# Altium footprint library XC7K160T.PcbLib: 72 footprints (part 3 of 5)
Each footprint in its own frame and in the unit in brackets; x right, y up, seen from the top. Pads: shape width x height; smd on the part's side, far side on the other; paste and mask are expansions set on the pad; w line width, h text height; cw(c..) or ccw(c..) is an arc to the next point about the centre after c.
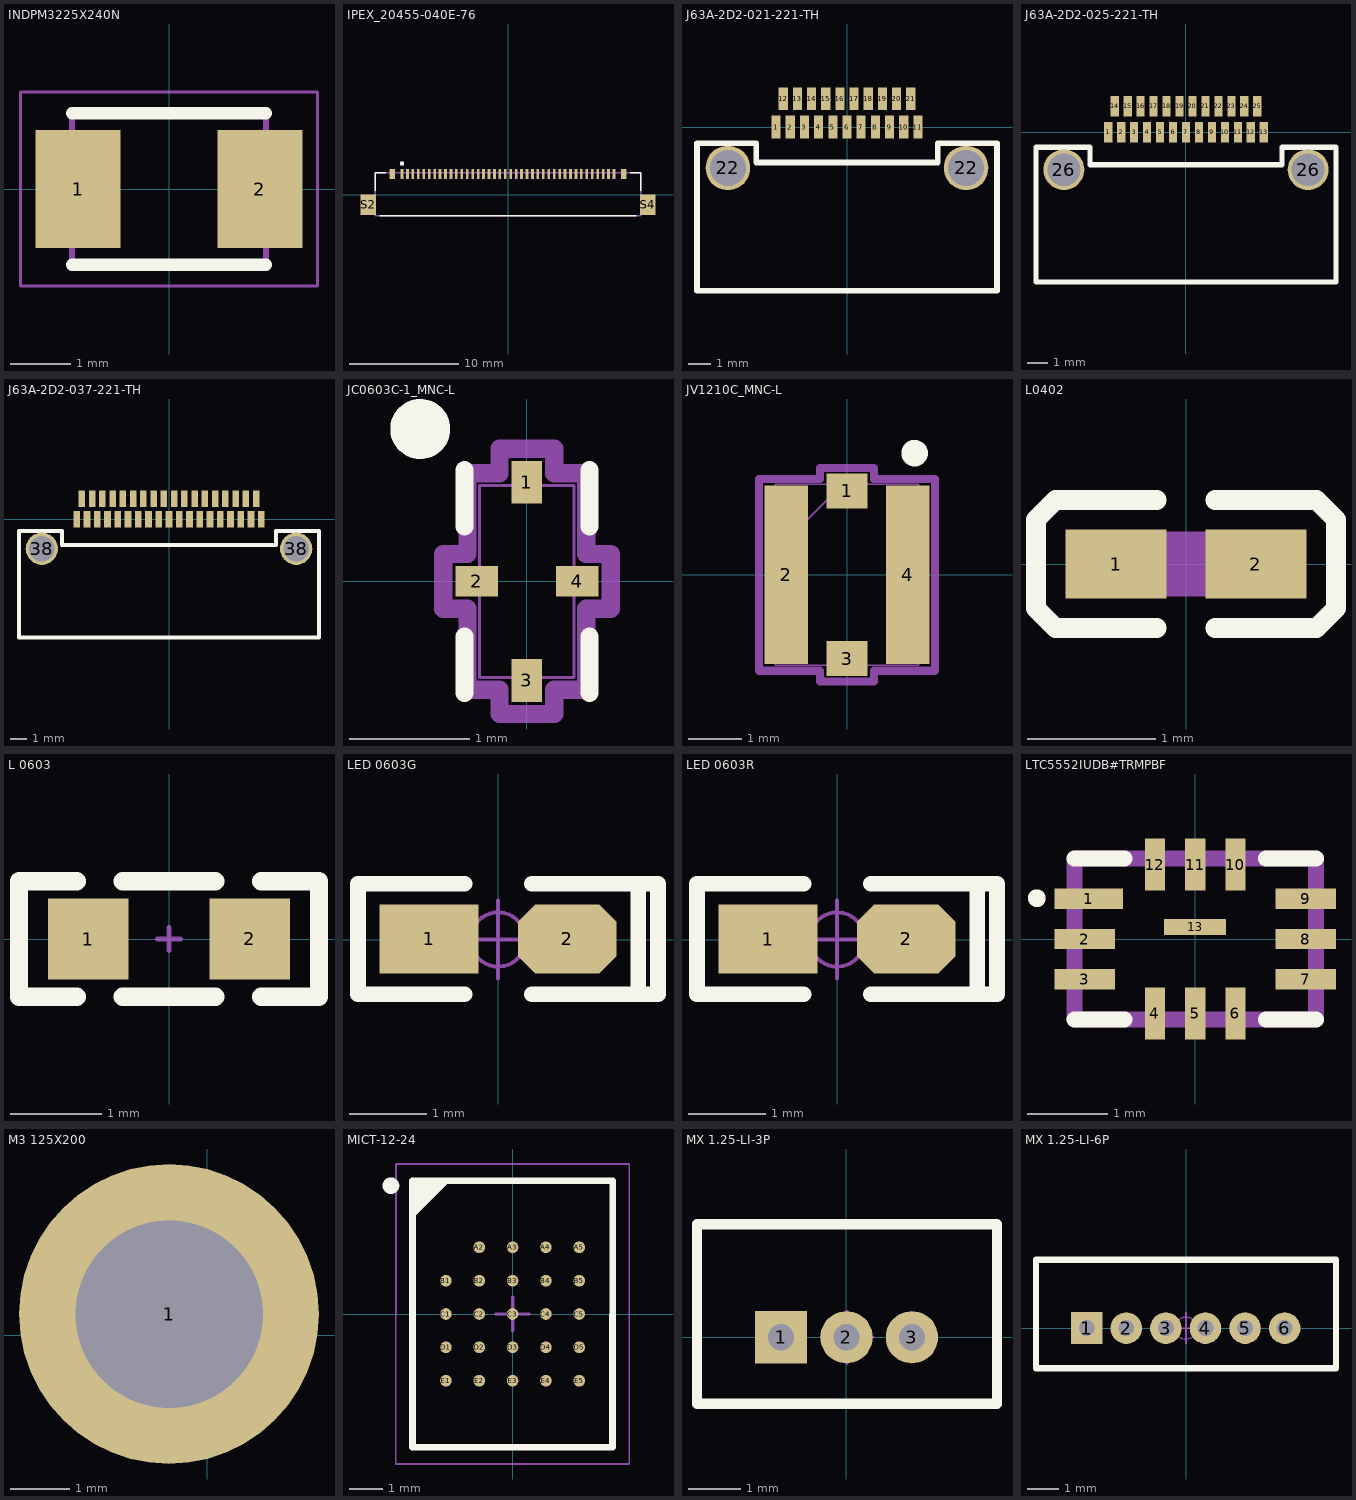
[diagram p2: the footprints below, top view; thin cyan lines are the x and y axes]

## INDPM3225X240N [mm]
pads (2):
  rect 1.4x1.95 smd: 1(-1.5,0) 2(1.5,0)
Top Overlay:
  lines w0.2: -1.6,-1.25 1.6,-1.25 ; -1.6,1.25 1.6,1.25
Mechanical 13:
  lines w0.1: -1.6,-1.25 -1.6,1.25 1.6,1.25 1.6,-1.25 -1.6,-1.25
Mechanical 15:
  lines w0.05: -2.45,-1.6 -2.45,1.6 2.45,1.6 2.45,-1.6 -2.45,-1.6
3D body "NLFV32T-100K-EF.stp": height 2.4, standoff 0, extent -1.6,-1.25 1.6,1.25

## IPEX_20455-040E-76 [mm]
pads (44):
  rect 0.25x0.9 smd: 1(-9.75,1.92) 2(-9.25,1.92) 3(-8.75,1.92) 4(-8.25,1.92) 5(-7.75,1.92) 6(-7.25,1.92) 7(-6.75,1.92) 8(-6.25,1.92) 9(-5.75,1.92) 10(-5.25,1.92) 11(-4.75,1.92) 12(-4.25,1.92) 13(-3.75,1.92) 14(-3.25,1.92) 15(-2.75,1.92) 16(-2.25,1.92) 17(-1.75,1.92) 18(-1.25,1.92) 19(-0.75,1.92) 20(-0.25,1.92) 21(0.25,1.92) 22(0.75,1.92) 23(1.25,1.92) 24(1.75,1.92) 25(2.25,1.92) 26(2.75,1.92) 27(3.25,1.92) 28(3.75,1.92) 29(4.25,1.92) 30(4.75,1.92) 31(5.25,1.92) 32(5.75,1.92) 33(6.25,1.92) 34(6.75,1.92) 35(7.25,1.92) 36(7.75,1.92) 37(8.25,1.92) 38(8.75,1.92) 39(9.25,1.92) 40(9.75,1.92)
  rect 0.55x0.9 smd: S1(-10.65,1.92) S3(10.65,1.92)
  rect 1.4x1.9 smd: S2(-12.85,-0.9) S4(12.85,-0.9)
Top Overlay:
  circle w0.2: c-9.75,2.9 r0.1
  lines w0.127: -12.235,0.37 -12.235,2.05 -11.25,2.05 ; -11.8,-1.9 11.8,-1.9 ; 11.25,2.05 12.235,2.05 12.235,0.37
Mechanical 13:
  circle w0.2: c-9.75,2.9 r0.1
  lines w0.127: -12.235,-1.9 12.235,-1.9 12.235,2.05 -12.235,2.05 -12.235,-1.9
3D body "20455-040E-76--3DModel-STEP-231308 (1).STEP": height 0.98, standoff -0.02, extent -13.125,-1.848 13.125,2.102

## J63A-2D2-021-221-TH [mm]
height 3.48
pads (23):
  rect 0.41x1.02 smd: 1(-3.175,0) 2(-2.54,0) 3(-1.905,0) 4(-1.27,0) 5(-0.635,0) 6(0,0) 7(0.635,0) 8(1.27,0) 9(1.905,0) 10(2.54,0) 11(3.175,0) 12(-2.857,1.27) 13(-2.222,1.27) 14(-1.587,1.27) 15(-0.953,1.27) 16(-0.318,1.27) 17(0.318,1.27) 18(0.953,1.27) 19(1.587,1.27) 20(2.222,1.27) 21(2.857,1.27)
  round 2 hole 1.6: 22(-5.335,-1.83) 22(5.335,-1.83)
Top Overlay:
  lines w0.254: -6.72,-7.33 -6.72,-0.73 -4.065,-0.73 -4.065,-1.59 4.065,-1.59 4.065,-0.73 6.72,-0.73 6.72,-7.33 -6.72,-7.33
3D body: height 3.48, standoff 0, extent -6.72,-7.33 6.72,-0.73

## J63A-2D2-025-221-TH [mm]
height 3.48
pads (27):
  rect 0.41x1.02 smd: 1(-3.81,0) 2(-3.175,0) 3(-2.54,0) 4(-1.905,0) 5(-1.27,0) 6(-0.635,0) 7(0,0) 8(0.635,0) 9(1.27,0) 10(1.905,0) 11(2.54,0) 12(3.175,0) 13(3.81,0) 14(-3.492,1.27) 15(-2.857,1.27) 16(-2.222,1.27) 17(-1.587,1.27) 18(-0.953,1.27) 19(-0.318,1.27) 20(0.318,1.27) 21(0.953,1.27) 22(1.587,1.27) 23(2.222,1.27) 24(2.857,1.27) 25(3.492,1.27)
  round 2 hole 1.6: 26(-5.97,-1.83) 26(5.97,-1.83)
Top Overlay:
  lines w0.254: -7.335,-7.33 -6.72,-7.33 6.72,-7.33 7.335,-7.33 7.335,-0.73 4.7,-0.73 4.7,-1.59 4.065,-1.59 -4.065,-1.59 -4.7,-1.59 -4.7,-0.73 -7.335,-0.73 ; -7.335,-7.33 -7.335,-0.73 ; -7.335,-7.33 -7.335,-0.73
3D body: height 3.48, standoff 0, extent -7.335,-7.33 7.366,-0.73

## J63A-2D2-037-221-TH [mm]
height 3.48
pads (39):
  rect 0.41x1.02 smd: 1(-5.715,-0.002) 2(-5.08,-0.002) 3(-4.445,-0.002) 4(-3.81,0) 5(-3.175,0) 6(-2.54,0) 7(-1.905,0) 8(-1.27,0) 9(-0.635,0) 10(0,0) 11(0.635,0) 12(1.27,0) 13(1.905,0) 14(2.54,0) 15(3.175,0) 16(3.81,0.001) 17(4.445,0.004) 18(5.08,0.005) 19(5.715,0.006) 20(-5.397,1.27) 21(-4.763,1.27) 22(-4.127,1.27) 23(-3.492,1.27) 24(-2.857,1.27) 25(-2.222,1.27) 26(-1.587,1.27) 27(-0.953,1.27) 28(-0.318,1.27) 29(0.318,1.27) 30(0.953,1.27) 31(1.587,1.27) 32(2.222,1.27) 33(2.857,1.27) 34(3.492,1.27) 35(4.127,1.27) 36(4.763,1.27) 37(5.397,1.27)
  round 2 hole 1.6: 38(-7.875,-1.83) 38(7.875,-1.83)
Top Overlay:
  lines w0.254: -9.287,-7.33 -9.287,-0.73 -6.62,-0.73 -6.62,-1.59 -4.065,-1.59 4.065,-1.59 6.62,-1.59 6.62,-0.73 9.287,-0.73 9.287,-7.33 6.72,-7.33 -9.287,-7.33
3D body: height 3.48, standoff 0, extent -9.237,-7.33 9.251,-0.73

## JC0603C-1_MNC-L [mil]
pads (4):
  rect 10x14 smd paste+0 mask+0: 1(0,32.5) 3(0,-32.5)
  rect 14x10 smd paste+0 mask+0: 2(-16.5,0) 4(16.5,0)
Top Overlay:
  circle w9.84: c-35,50 r4.92
  lines w6: -20.5,-36.5 -20.5,-18.1 ; -20.5,18.1 -20.5,36.5 ; 20.5,-36.5 20.5,-18.1 ; 20.5,18.1 20.5,36.5
Mechanical 13:
  lines w1: -15.5,-31.5 15.5,-31.5 15.5,31.5 -15.5,31.5 -15.5,-31.5 ; -15.5,-6 -15.5,6 -15.5,-6 ; -6,-31.5 6,-31.5 -6,-31.5 ; -6,31.5 6,31.5 -6,31.5 ; 15.5,-6 15.5,6 15.5,-6
Mechanical 15:
  lines w6: -27.5,-9 -19.5,-9 -19.5,-35.5 -9,-35.5 -9,-43.5 9,-43.5 9,-35.5 19.5,-35.5 19.5,-9 27.5,-9 27.5,9 19.5,9 19.5,35.5 9,35.5 9,43.5 -9,43.5 -9,35.5 -19.5,35.5 -19.5,9 -27.5,9 -27.5,-9
3D body "JC0603C-1_MNC.step": height 24.09, standoff 0, extent -15.51,-31.5 15.51,31.5
3D body "JC0603C-1_MNC.step": height 24.09, standoff 0, extent -15.51,-31.49 15.52,31.51

## JV1210C_MNC-L [mil]
pads (4):
  rect 30x26 smd paste+0 mask+0: 1(0,62) 3(0,-62)
  rect 32x132 smd paste+0 mask+0: 2(-45,0) 4(45,0)
Top Overlay:
  circle w9.84: c50,90 r4.92
Mechanical 13:
  lines w1: -53,17 -3,67 ; -53,-67 -53,67 53,67 53,-67 -53,-67
Mechanical 15:
  lines w6: -65,-71 -65,71 -57,71 -20,71 -20,79 20,79 20,71 57,71 65,71 65,-71 57,-71 20,-71 20,-79 -20,-79 -20,-71 -57,-71 -65,-71
3D body: height 10, standoff 0, extent 0,0 10,10
3D body "JV1210C_MNC.step": height 55.12, standoff 0, extent -52.99,-67.01 53,67.01

## L0402 [mm]
pads (2):
  rect 0.79x0.54 smd: 1(-0.545,0) 2(0.545,0)
Top Overlay:
  lines w0.152: -0.226,-0.499 -1.016,-0.499 -1.169,-0.346 -1.169,0.346 -1.016,0.499 -0.226,0.499 ; 0.226,-0.499 1.016,-0.499 1.169,-0.346 1.169,0.346 1.016,0.499 0.226,0.499
Top Paste:
  region: 0.135,-0.086 0.135,0.086 0.404,0.27 0.9,0.27 0.94,0.23 0.94,-0.23 0.9,-0.27 0.404,-0.27
  region: -0.135,-0.086 -0.135,0.086 -0.404,0.27 -0.9,0.27 -0.94,0.23 -0.94,-0.23 -0.9,-0.27 -0.404,-0.27
Mechanical 4:
  region: -0.5,-0.25 -0.5,0.25 0.5,0.25 0.5,-0.25
Top Assembly:
  region: -0.5,-0.25 -0.5,0.25 -0.25,0.25 -0.25,-0.25
  region: 0.5,-0.25 0.5,0.25 0.25,0.25 0.25,-0.25

## L 0603 [mil]
pads (2):
  rect 35x35 smd: 1(-35,0) 2(35,0)
Top Overlay:
  lines w8: -40,-25 -65,-25 -65,25 -40,25 ; -20,-25 20,-25 ; -20,25 20,25 ; 40,-25 65,-25 65,25 40,25
Mechanical 15:
  lines w2: -5,0 5,0 ; 0,-5 0,0 0,5
3D body "0603.STEP": height 31.5, standoff -0.11, extent -31.5,-15.75 31.5,15.75

## LED 0603G [mil]
pads (2):
  rect 50x35 smd: 1(-35,0.26)
  oct 50x35 smd: 2(35,0.26)
Top Overlay:
  lines w8: -17,-27.74 -71,-27.74 -71,-25.74 -71,28.26 -70,28.26 -17,28.26 ; 17,-27.74 70,-27.74 ; 17,28.26 71,28.26 81,28.26 81,-27.74 71,-27.74 71,26.26
Mechanical 15:
  circle w1.97: c0,0 r13.78
  lines w1.97: -19.68,0 19.68,0 ; 0,-19.68 0,19.68
3D body "LED 0603-G.STEP": height 18.36, standoff -0.16, extent -31.49,-15.79 31.5,15.79
3D body "LED 0603玻璃罩.": height 0, standoff 0, extent 0,0 0,0

## LED 0603R [mil]
pads (2):
  rect 50x35 smd: 1(-35,0.26)
  oct 50x35 smd: 2(35,0.26)
Top Overlay:
  lines w8: -17,-27.74 -71,-27.74 -71,-25.74 -71,28.26 -70,28.26 -17,28.26 ; 17,-27.74 70,-27.74 ; 17,28.26 71,28.26 81,28.26 81,-27.74 71,-27.74 71,26.26
Mechanical 15:
  circle w1.97: c0,0 r13.78
  lines w1.97: -19.68,0 19.68,0 ; 0,-19.68 0,19.68
3D body "LED 0603-R.STEP": height 18.36, standoff -0.16, extent -31.5,-15.79 31.5,15.79
3D body "LED 0603玻璃罩.": height 0, standoff 0, extent 0,0 0,0

## LTC5552IUDB#TRMPBF [mm]
pads (13):
  rect 0.85x0.25 smd: 1(-1.325,0.5)
  rect 0.75x0.25 smd: 2(-1.375,0) 3(-1.375,-0.5) 7(1.375,-0.5) 8(1.375,0) 9(1.375,0.5)
  rect 0.25x0.65 smd: 4(-0.5,-0.925) 5(0,-0.925) 6(0.5,-0.925) 10(0.5,0.925) 11(0,0.925) 12(-0.5,0.925)
  rect 0.77x0.2 smd: 13(0,0.15)
Top Overlay:
  circle w0.2: c-1.969,0.508 r0.01
  lines w0.2: -1.5,-1 -0.879,-1 ; -1.5,1 -0.879,1 ; 0.879,-1 1.5,-1 ; 0.879,1 1.5,1
Mechanical 13:
  lines w0.2: -1.5,-1 1.5,-1 1.5,1 -1.5,1 -1.5,-1
3D body "UDB_12_ADI.step": height 0.81, standoff 0, extent -1.549,-1.054 1.549,1.054

## M3 125X200 [mm]
pads (1):
  round 5.08 hole 3.175: 1(-0.651,0.359)

## MICT-12-24 [mm]
pads (24):
  round 0.35 smd: A2(-1,2) A3(0,2) A4(1,2) A5(2,2) B1(-2,1) B2(-1,1) B3(0,1) B4(1,1) B5(2,1) C1(-2,0) C2(-1,0) C3(0,0) C4(1,0) C5(2,0) D1(-2,-1) D2(-1,-1) D3(0,-1) D4(1,-1) D5(2,-1) E1(-2,-2) E2(-1,-2) E3(0,-2) E4(1,-2) E5(2,-2)
Top Overlay:
  circle w0.25: c-3.65,3.85 r0.125
  region: -2,4 -3,3 -3,4
  lines w0.2: -3,3 -2,4 ; -3,-4 -3,4 3,4 3,-4 -3,-4
Mechanical 13:
  lines w0.1: -3,-4 -3,4 3,4 3,-4 -3,-4
Mechanical 15:
  lines w0.05: -3.5,-4.5 -3.5,4.5 3.5,4.5 3.5,-4.5 -3.5,-4.5
  lines w0.1: -0.5,0 0.5,0 ; 0,-0.5 0,0.5
3D body: height 0.2, standoff 0, extent -3,-4 3,4

## MX 1.25-LI-3P [mm]
pads (3):
  rect 1x1 hole 0.5: 1(-1.25,0)
  round 1 hole 0.5: 2(0,0) 3(1.25,0)
Top Overlay:
  lines w0.2: -2.854,-1.27 -2.854,2.159 2.874,2.159 2.874,-1.27 -2.854,-1.27
Mechanical 15:
  circle w0.05: c0.01,0 r0.35
  lines w0.05: -0.49,0 0.51,0 ; 0.01,-0.5 0.01,0.5
3D body "MOLEX1.25-LI-3P.STEP": height 4.25, standoff -2.35, extent -2.74,-1.15 2.76,2.05

## MX 1.25-LI-6P [mm]
pads (6):
  rect 1x1 hole 0.5: 1(-3.135,0)
  round 1 hole 0.5: 2(-1.885,0) 3(-0.635,0) 4(0.615,0) 5(1.865,0) 6(3.115,0)
Top Overlay:
  lines w0.2: -4.739,-1.27 4.739,-1.27 4.739,2.159 -4.739,2.159 -4.739,-1.27
Mechanical 15:
  circle w0.05: c0,0 r0.35
  lines w0.05: -0.5,0 0.5,0 ; 0,-0.5 0,0.5
3D body "MOLEX1.25-LI-6P.STEP": height 4.25, standoff -2.35, extent -4.625,-1.15 4.625,2.05